# Altium schematic symbol library USB4940-00-A.SchLib: 1 symbol
Pins are listed as number, name and electrical type; pins without a type are passive.

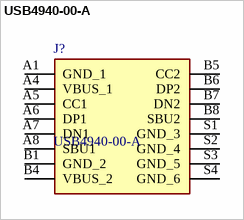
[diagram p0: symbol USB4940-00-A]

## USB4940-00-A
designator J?
USB-C (USB TYPE-C) USB 2.0 Receptacle Connector 24 (16+8 Dummy) Position Surface Mount, Right Angle , 48VDC , -40C ~ 85C; Manufacturer_Name: GCT (GLOBAL CONNECTOR TECHNOLOGY); Geometry.Height: 3.46mm; Mouser Part Number: *; Mouser Price/Stock: *; Manufacturer_Part_Number: USB4940-00-A; Datasheet Link: https://gct.co/download?type=PDFDrawing&name=USB4940.pdf
footprint USB494000A
pins: A1 GND_1, A4 VBUS_1, A5 CC1, A6 DP1, A7 DN1, A8 SBU1, B1 GND_2, B4 VBUS_2, B5 CC2, B6 DP2, B7 DN2, B8 SBU2, S1 GND_3, S2 GND_4, S3 GND_5, S4 GND_6